# Altium footprint library TCM.PcbLib: 42 footprints (part 3 of 3)
Each footprint in its own frame and in the unit in brackets; x right, y up, seen from the top. Pads: shape width x height; smd on the part's side, far side on the other; paste and mask are expansions set on the pad; w line width, h text height; cw(c..) or ccw(c..) is an arc to the next point about the centre after c.
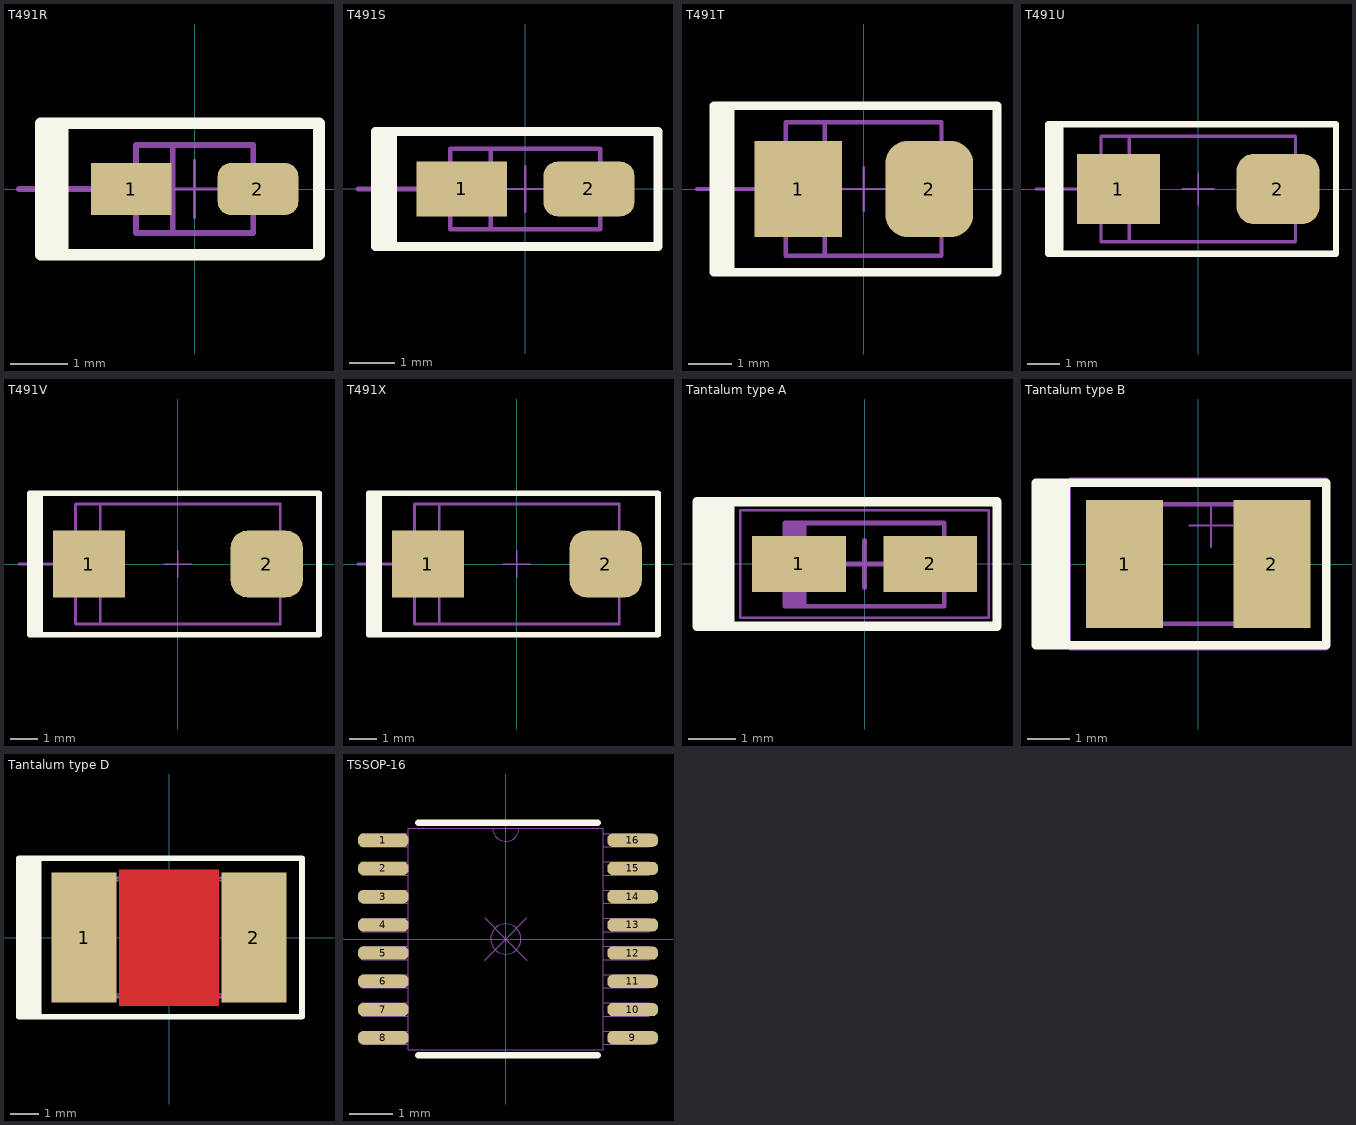
[diagram p2: the footprints below, top view; thin cyan lines are the x and y axes]

## T491R [mm] "Capacitor, SM Tantalum; Body 2.0 x 1.3 mm (LxW typ)"
height 1.2
pads (2):
  rect 1.4x0.9 smd: 1(-1.1,0)
  rrect50% 1.4x0.9 smd: 2(1.1,0)
Top Overlay:
  lines w0.2: -2.54,-1.143 -2.54,1.143 ; -2.413,-1.143 -2.413,1.143 ; -2.286,-1.143 -2.286,1.143 ; -2.667,-1.143 -2.667,1.143 2.159,1.143 2.159,-1.143 -2.667,-1.143
Mechanical 14:
  lines w0.05: -0.5,0 0.5,0 ; 0,-0.5 0,0.5
Mechanical 15:
  lines w0.1: -3.048,0 -1.524,0 ; -2.286,-0.762 -2.286,0.762 ; -0.381,-0.762 -0.381,0.762 ; -1.016,-0.762 -1.016,0.762 1.016,0.762 1.016,-0.762 -1.016,-0.762

## T491S [mm] "Capacitor, SM Tantalum; Body 3.2 x 1.6 mm (LxW typ)"
height 1.2
pads (2):
  rect 2x1.2 smd: 1(-1.4,0)
  rrect50% 2x1.2 smd: 2(1.4,0)
Top Overlay:
  lines w0.2: -3.175,-1.27 -3.175,1.27 ; -3.048,-1.27 -3.048,1.27 ; -2.921,-1.27 -2.921,1.27 ; -3.302,-1.27 -3.302,1.27 2.921,1.27 2.921,-1.27 -3.302,-1.27
Mechanical 14:
  lines w0.05: -0.5,0 0.5,0 ; 0,-0.5 0,0.5
Mechanical 15:
  lines w0.1: -3.683,0 -2.159,0 ; -2.921,-0.762 -2.921,0.762 ; -0.762,-0.889 -0.762,0.889 ; -1.651,-0.889 -1.651,0.889 1.651,0.889 1.651,-0.889 -1.651,-0.889

## T491T [mm] "Capacitor, SM Tantalum; Body 3.5 x 2.8 mm (LxW typ)"
height 1.2
pads (2):
  rect 2x2.2 smd: 1(-1.5,0)
  rrect50% 2x2.2 smd: 2(1.5,0)
Top Overlay:
  lines w0.2: -3.302,-1.905 -3.302,1.905 ; -3.175,-1.905 -3.175,1.905 ; -3.048,-1.905 -3.048,1.905 ; -3.429,-1.905 -3.429,1.905 3.048,1.905 3.048,-1.905 -3.429,-1.905
Mechanical 14:
  lines w0.05: -0.5,0 0.5,0 ; 0,-0.5 0,0.5
Mechanical 15:
  lines w0.1: -3.81,0 -2.286,0 ; -3.048,-0.762 -3.048,0.762 ; -0.889,-1.524 -0.889,1.524 ; -1.778,-1.524 1.778,-1.524 1.778,1.524 -1.778,1.524 -1.778,-1.524

## T491U [mm] "Capacitor, SM Tantalum; Body 6.0 x 3.2 mm (LxW typ)"
height 1.5
pads (2):
  rect 2.6x2.2 smd: 1(-2.5,0)
  rrect50% 2.6x2.2 smd: 2(2.5,0)
Top Overlay:
  lines w0.2: -4.572,-2.032 -4.572,2.032 ; -4.445,-2.032 -4.445,2.032 ; -4.318,-2.032 -4.318,2.032 ; -4.699,-2.032 -4.699,2.032 4.318,2.032 4.318,-2.032 -4.699,-2.032
Mechanical 14:
  lines w0.05: -0.5,0 0.5,0 ; 0,-0.5 0,0.5
Mechanical 15:
  lines w0.1: -5.08,0 -3.556,0 ; -4.318,-0.762 -4.318,0.762 ; -2.159,-1.651 -2.159,1.651 ; -3.048,-1.651 3.048,-1.651 3.048,1.651 -3.048,1.651 -3.048,-1.651

## T491V [mm] "Capacitor, SM Tantalum; Body 7.3 x 4.3 mm (LxW typ)"
height 2
pads (2):
  rect 2.6x2.4 smd: 1(-3.2,0)
  rrect50% 2.6x2.4 smd: 2(3.2,0)
Top Overlay:
  lines w0.2: -5.207,-2.54 -5.207,2.54 ; -5.08,-2.54 -5.08,2.54 ; -4.953,-2.54 -4.953,2.54 ; -5.334,-2.54 -5.334,2.54 5.08,2.54 5.08,-2.54 -5.334,-2.54
Mechanical 14:
  lines w0.05: -0.5,0 0.5,0 ; 0,-0.5 0,0.5
Mechanical 15:
  lines w0.1: -5.715,0 -4.191,0 ; -4.953,-0.762 -4.953,0.762 ; -2.794,-2.159 -2.794,2.159 ; -3.683,-2.159 -3.683,2.159 3.683,2.159 3.683,-2.159 -3.683,-2.159

## T491X [mm] "Capacitor, SM Tantalum; Body 7.3 x 4.3 mm (LxW typ)"
height 4.3
pads (2):
  rect 2.6x2.4 smd: 1(-3.2,0)
  rrect50% 2.6x2.4 smd: 2(3.2,0)
Top Overlay:
  lines w0.2: -5.207,-2.54 -5.207,2.54 ; -5.08,-2.54 -5.08,2.54 ; -4.953,-2.54 -4.953,2.54 ; -5.334,-2.54 -5.334,2.54 5.08,2.54 5.08,-2.54 -5.334,-2.54
Mechanical 14:
  lines w0.05: -0.5,0 0.5,0 ; 0,-0.5 0,0.5
Mechanical 15:
  lines w0.1: -5.715,0 -4.191,0 ; -4.953,-0.762 -4.953,0.762 ; -2.794,-2.159 -2.794,2.159 ; -3.683,-2.159 -3.683,2.159 3.683,2.159 3.683,-2.159 -3.683,-2.159

## Tantalum type A [mm]
pads (2):
  rect 2x1.2 smd: 1(-1.4,0) 2(1.4,0)
Top Overlay:
  rectangle: -3.575,-1.425 -2.875,1.425
  lines w0.2: -3.575,-1.325 -3.575,1.325 ; -3.375,-1.325 2.825,-1.325 2.825,1.325 -3.375,1.325 ; -2.875,-1.325 -2.875,1.325
Mechanical 13:
  rectangle: -1.7,-0.9 -1.243,0.9
  lines w0.1: -1.7,-0.9 -1.7,0.875 1.7,0.875 1.7,-0.9 -1.7,-0.9
Mechanical 15:
  lines w0.05: -2.65,-1.15 -2.65,1.15 2.65,1.15 2.65,-1.15 -2.65,-1.15
  lines w0.1: -0.5,0 0.5,0 ; 0,-0.5 0,0.5
3D body: height 1.6, standoff 0, extent -1.7,-0.9 1.7,0.9

## Tantalum type B [mm]
height 2.1
pads (2):
  rect 1.8x3 smd: 1(-1.725,0) 2(1.725,0)
Top Overlay:
  rectangle: -3.8,-2 -3.1,2
  lines w0.2: -3.8,-1.9 -3.8,1.9 ; -3.2,-1.9 3,-1.9 3,1.9 -3.2,1.9 ; -3.1,-1.9 -3.1,1.9
Mechanical 14:
  lines w0.05: -0.2,0.9 0.8,0.9 ; 0.3,0.4 0.3,1.4 ; -3,-2 3,-2 3,2 -3,2 -3,-2
Mechanical 15:
  lines w0.1: -1,-1.4 -1,1.4 ; -1.75,-1.4 1.75,-1.4 1.75,1.4 -1.75,1.4 -1.75,-1.4
3D body "Tantalum Capacitor Case B.STEP": height 2.14, standoff 0.04, extent -1.886,-1.45 1.804,1.37

## Tantalum type D [mm]
height 2.1
pads (2):
  rect 2.3x4.6 smd: 1(-3,0) 2(3,0)
Top Layer:
  pour cut-out: -1.75,2.4 1.75,2.4 1.75,-2.4 -1.75,-2.4
Top Overlay:
  rectangle: -5.3,-2.9 -4.6,2.7
  lines w0.2: -5.3,-2.8 -5.3,2.8 ; -4.5,2.8 -5.3,2.8 ; -5.3,2.8 -5.3,2.8 ; -4.6,-2.8 -4.6,2.8 4.7,2.8 4.7,-2.8 -4.6,-2.8
Mechanical 14:
  lines w0.05: -0.2,0.9 0.8,0.9 ; 0.3,0.4 0.3,1.4 ; -3,-2 3,-2 3,2 -3,2 -3,-2
Mechanical 15:
  lines w0.1: -3.7,-2.1 3.5,-2.1 3.5,2.1 -3.7,2.1 -3.7,-2.1
3D body "User Library-Tantalum Cap Case D.step": height 2.8, standoff 0, extent -3.67,-2.15 3.47,2.15

## TSSOP-16 [mil]
pads (16):
  oct 46x12 smd paste+0 mask+0: 1(-111,89.57)
  rrect80% 46x12 smd paste+0 mask+0: 2(-111,63.98) 3(-111,38.39) 4(-111,12.8) 5(-111,-12.8) 6(-111,-38.39) 7(-111,-63.98) 8(-111,-89.57) 9(115,-89.57) 10(115,-63.98) 11(115,-38.39) 12(115,-12.8) 13(115,12.8) 14(115,38.39) 15(115,63.98) 16(115,89.57)
Top Overlay:
  lines w6: -79.46,-105.5 83.46,-105.5 ; -79.46,105.5 83.46,105.5
  text ".Designator" at -86,-145.43 h50
Mechanical 13:
  lines w0.39: -19.19,-19.19 0,0 ; -19.19,19.19 0,0 ; 19.19,-19.19 0,0 ; 19.19,19.19 0,0 ; 13.78,0 ccw(c0,0) 13.78,0
  lines w1: -12,100.5 ccw(c0,100.5) 12,100.5 ; -130,-95.57 -130,-83.57 -88.5,-83.57 -88.5,-95.57 -130,-95.57 ; -130,-69.98 -130,-57.98 -88.5,-57.98 -88.5,-69.98 -130,-69.98 ; -130,-44.39 -130,-32.39 -88.5,-32.39 -88.5,-44.39 -130,-44.39 ; -130,-18.8 -130,-6.8 -88.5,-6.8 -88.5,-18.8 -130,-18.8 ; -130,6.8 -130,18.8 -88.5,18.8 -88.5,6.8 -130,6.8 ; -130,32.39 -130,44.39 -88.5,44.39 -88.5,32.39 -130,32.39 ; -130,57.98 -130,69.98 -88.5,69.98 -88.5,57.98 -130,57.98 ; -130,83.57 -130,95.57 -88.5,95.57 -88.5,83.57 -130,83.57 ; -88.5,-100.5 88.5,-100.5 88.5,100.5 -88.5,100.5 -88.5,-100.5 ; 88.5,-95.57 88.5,-83.57 130,-83.57 130,-95.57 88.5,-95.57 ; 88.5,-69.98 88.5,-57.98 130,-57.98 130,-69.98 88.5,-69.98 ; 88.5,-44.39 88.5,-32.39 130,-32.39 130,-44.39 88.5,-44.39 ; 88.5,-18.8 130,-18.8 130,-6.8 88.5,-6.8 88.5,-18.8 ; 88.5,6.8 130,6.8 130,18.8 88.5,18.8 88.5,6.8 ; 88.5,32.39 130,32.39 130,44.39 88.5,44.39 88.5,32.39 ; 88.5,57.98 130,57.98 130,69.98 88.5,69.98 88.5,57.98 ; 88.5,83.57 130,83.57 130,95.57 88.5,95.57 88.5,83.57
  text ".Designator" at -86,-145.43 h50
3D body "PW16.step": height 47.09, standoff 0, extent -130,-100.51 130,100.51